# Altium integrated library TL3300DF260Q.IntLib: 1 symbol
Pins are listed as number, name and electrical type; pins without a type are passive.

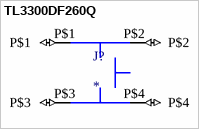
[diagram p0: symbol TL3300DF260Q]

## TL3300DF260Q
designator J?
Tactile Switch SPST-NO Top Actuated Surface Mount; MF: E-Switch; MP: TL3300DF260Q; Purchase-URL: https://pricing.snapeda.com/search?q=TL3300DF260Q&ref=eda; Package: None; Check_prices: https://www.snapeda.com/parts/TL3300DF260Q/E-Switch/view-part/?ref=eda; Value: *; SnapEDA_Link: https://www.snapeda.com/parts/TL3300DF260Q/E-Switch/view-part/?ref=snap; Digi-Key_Part_Number: EG4907TR-ND
footprint TL3300DF260Q
pins: P$1 (io), P$2 (io), P$3 (io), P$4 (io)